# EAGLE library part LM2698_DGK_8 (library TI-LM2698)
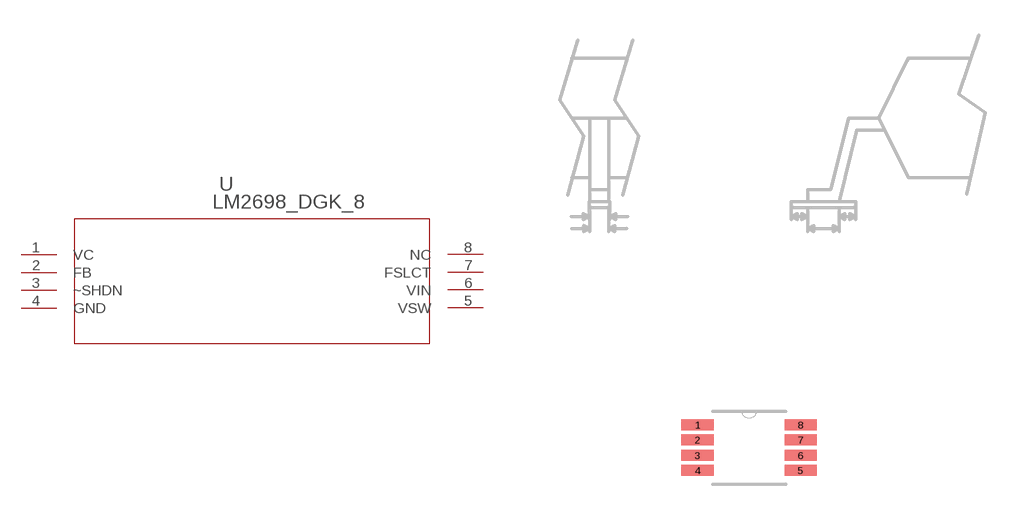
[diagram p0: symbol with the pads of MUA08A; footprint MUA08A]

Designator prefix U

## LM2698_DGK_8 (BASE_PN: LM2698; COMPTYPE: Switcher; PARTNUMBER: LM2698MM-ADJ; SYMBOL: NameLM2698MM-ADJ; TYPE: LM2698MM-ADJ; VENDOR: NationalSemiconductor; VERSION: 05/02/2007)  [MUA08A]
1  VC  pas
2  FB  pas
3  ~SHDN  pas
4  GND  pas
5  VSW  out
6  VIN  in
7  FSLCT  pas
8  NC  pas

## Footprint MUA08A (pad centres in mm)
smd 1.372 x 0.457: 1 -2.184,0.965; 2 -2.184,0.33; 3 -2.184,-0.33; 4 -2.184,-0.965; 5 2.184,-0.965; 6 2.184,-0.33; 7 2.184,0.33; 8 2.184,0.965